# EAGLE library part QT113 (library MlabPaja)
QT113 Charge-Transfer Touch Sensor
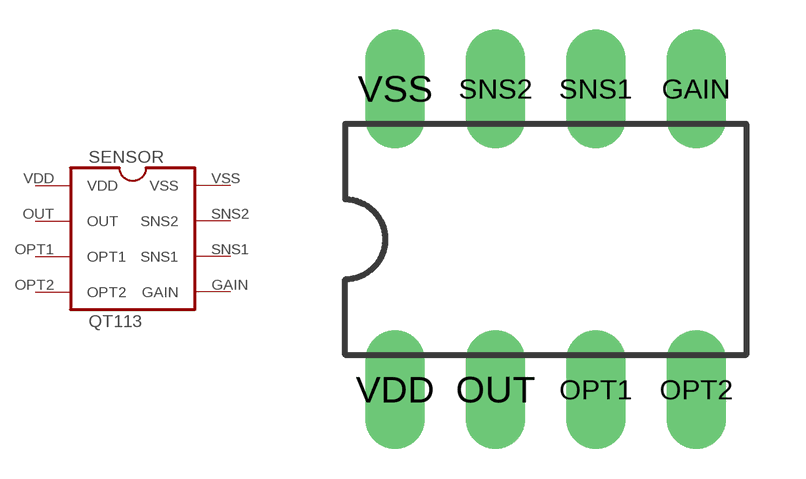
[diagram p4: symbol with the pads of 8PIN_NARROW; footprint 8PIN_NARROW]

Designator prefix SENSOR

## QT113QT113_  [8PIN_NARROW]
GAIN  GAIN  pwr
OPT1  OPT1  pwr
OPT2  OPT2  pwr
OUT  OUT  out
SNS1  SNS1  in
SNS2  SNS2  in
VDD  VDD  pwr
VSS  VSS  pwr

## Footprint 8PIN_NARROW (pad centres in mm)
Dual In Line Package
drill 1 long: GAIN 3.81,3.81; OPT1 1.27,-3.81; OPT2 3.81,-3.81; OUT -1.27,-3.81; SNS1 1.27,3.81; SNS2 -1.27,3.81; VDD -3.81,-3.81; VSS -3.81,3.81